# Altium schematic symbol library Pack_Bionics_SchLib.SchLib: 29 symbols
Pins are listed as number, name and electrical type; pins without a type are passive.

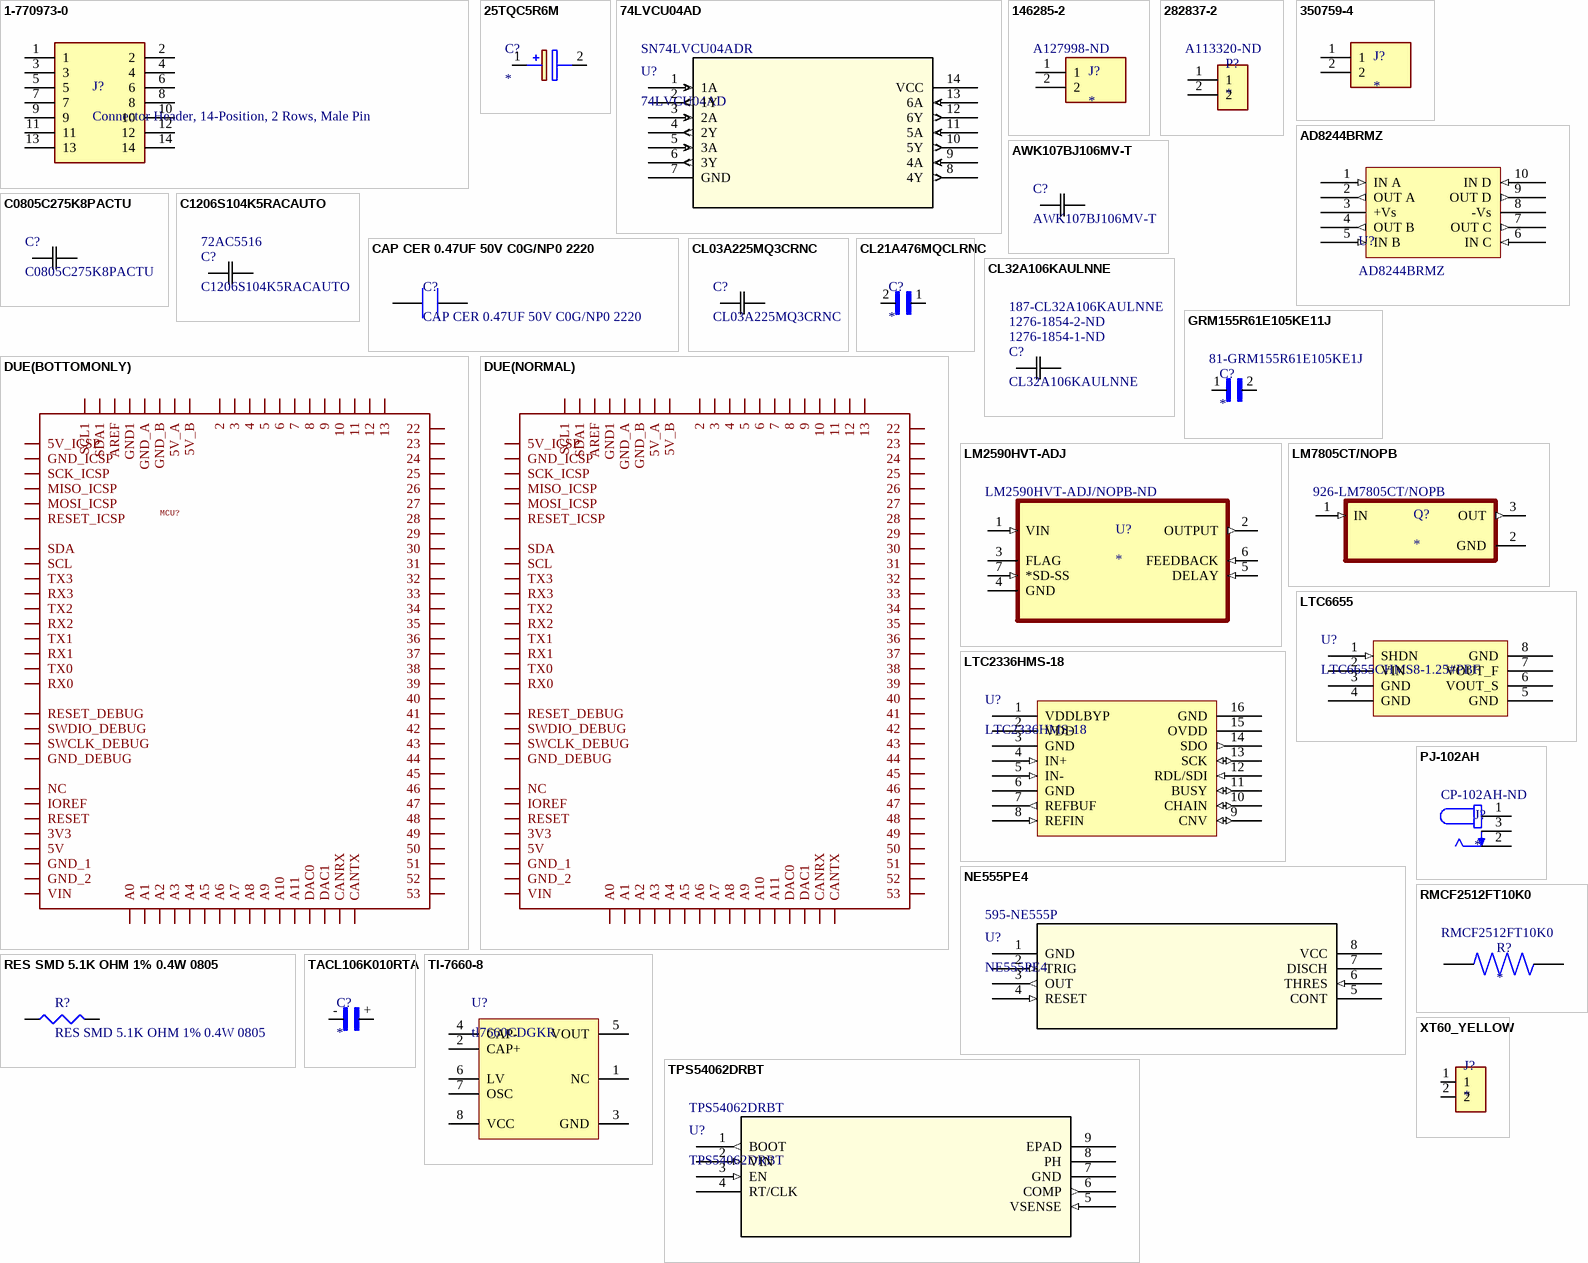
[diagram p0: symbols 1-770973-0 to XT60_YELLOW]

## 1-770973-0
designator J?, comment Connector Header, 14-Position, 2 Rows, Male Pin
Connector Header, 14-Position, 2 Rows, Male Pin, PCB, White, Mate-N-Lok Series; Manufacturer: TE Connectivity; MF: {'manufacturer': 'TE Connectivity'}; MP: 1-770973-0; Number of Terminals/Pins: 14; Current Rating: 9.5A; Insulation Resistance: 100MR; Connector System: Wire-to-Board; Mating Alignment: Yes (With); PCB Mount Alignment: No (Without); PCB Mount Retention: With; Max Voltage Rating (AC): 600V; Number of Ports: 1; Test Voltage: 1.5kV; Circuit Application: Power; VDE Tested: Yes; Pitch: 0.162inch; Row Spacing: 0.163inch; Plating Thickness: 8.89um; PCB Thickness: 1.57inch; Approvals: CSA; Value: *; Availability: Unavailable; Package: None; Price: None; Supplier 1: Digi-Key; Supplier Part Number 1: A32482-ND; Manufacturer Part Number: 1-770973-0; RoHS: Yes; Category: Power Connectors; Stock 1: 583; Pricing 1: 1=6.69000, 10=6.05100, 100=5.29790, 500=4.46140, 1000=3.90372 (USD); Mount: Through Hole,Board; Color: White; Contact Plating: Tin; Contact Material: Brass; Housing Material: Nylon; Housing Color: White; Min Operating Temperature: -67°C; Max Operating Temperature: 221°C; Packaging: Bag; Package Quantity: 200; Termination: Solder; Orientation: Right Angle; Series: Mini-Universal MATE-N-LOK; Number of Rows: 2; Contact Gender: Male; Number of Positions: 14; Number of Contacts: 14; Connector Type: Pin; Mating Retention: Yes (With); Contact Current Rating: 9.5A; Contact Type: Male Pin; Number of Poles: 14; Fastening Type: Ramp; Voltage Rating: 600V; Contact Retention: No (Without); Number of Power Positions: 14; Sealable: No (Without); Strain Relief: No (Without); Length: 30.56mm; Width: 12.7mm; Height: 11.86mm; Radiation Hardening: No; REACH SVHC: Unknown; Flammability Rating: UL94 V-0; RoHS Compliant: Yes; ComponentLink1URL: https://datasheet.ciiva.com/19460/1963239-19460794.pdf?src-supplier=Jameco; ComponentLink1Description: https://datasheet.ciiva.com/19460/1963239-19460794.pdf?src-supplier=Jameco; ComponentLink2URL: https://datasheet.ciiva.com/1111/eng-cd-770973-g-1111842.pdf?src-supplier=Element14; ComponentLink2Description: https://datasheet.ciiva.com/1111/eng-cd-770973-g-1111842.pdf?src-supplier=Element14; ComponentLink3URL: https://datasheet.ciiva.com/710/eng-cd-770973-h-710742.pdf?src-supplier=Digi-Key; ComponentLink3Description: https://datasheet.ciiva.com/710/eng-cd-770973-h-710742.pdf?src-supplier=Digi-Key; ComponentLink4URL: https://datasheet.ciiva.com/16654/eng-cs-82181-softshell-high-density-0408-16654873.pdf?src-supplier=Avnet+Europe; ComponentLink4Description: https://datasheet.ciiva.com/16654/eng-cs-82181-softshell-high-density-0408-16654873.pdf?src-supplier=Avnet+Europe; Supplier 2: Newark; Supplier Part Number 2: 52K3387; Stock 2: 272; Pricing 2: 1=6.19000, 10=5.42000, 25=5.24000, 50=5.07000, 100=4.89000, 250=4.38000 (USD); Supplier 3: Mouser; Supplier Part Number 3: 571-1-770973-0; Stock 3: 1677; Pricing 3: 1=6.37000, 10=5.58000, 50=5.58000, 100=5.05000, 200=4.51000, 600=4.24000, 1000=3.71000, 2600=3.53000, 5000=3.45000, 10000=3.36000 (USD)
footprint TE_1-770973-0
pins: 1, 2, 3, 4, 5, 6, 7, 8, 9, 10, 11, 12, 13, 14

## 25TQC5R6M
designator C?
Cap Tant Solid 5.6uF 25V B2 CASE 20% (3.5 X 2.8 X 1.9mm) SMD 3528, B2 0.1 Ohm 105°C Embossed T/R; Manufacturer_Name: Panasonic; Manufacturer_Part_Number: 25TQC5R6M; ESR (Equivalent Series Resistance): 100mR; Ripple Current: 800mA; Leakage Current: 42uA; Polarity: Polar; Life (Hours): 2000Hour; Dissipation Factor: 10%; Datasheet Link: http://industrial.panasonic.com/cdbs/www-data/pdf/AAA8000/AAA8000C62.pdf; Supplier 1: Digi-Key; Supplier Part Number 1: P16518CT-ND; Manufacturer: Panasonic; Manufacturer Part Number: 25TQC5R6M; RoHS: Yes; Category: Tantalum Capacitors; Stock 1: 7710; Pricing 1: 1=2.01000, 10=1.58300, 50=1.37220, 100=1.18740, 500=0.89718, 1000=0.79162 (USD); Mount: Surface Mount; Case/Package: 1411; Number of Pins: 2; Case Code (Metric): 3528; Case Code (Imperial): 1411; Min Operating Temperature: -55°C; Max Operating Temperature: 105°C; Package Quantity: 2000; Packaging: Tape and Reel; Capacitance: 5.6uF; Tolerance: 20%; Voltage Rating: 25V; Voltage Rating (DC): 25V; Termination: SMD/SMT; Voltage: 25V; Features: General Purpose; Length: 3.5mm; Width: 0.11inch; Height: 1.9mm; Height - Seated (Max): 0.079inch; Depth: 2.8mm; Radiation Hardening: No; REACH SVHC: No SVHC; Lead Free: Lead Free; RoHS Compliant: Yes; ComponentLink1URL: https://datasheet.ciiva.com/48675/aaa8000ce14-48675021.pdf?src-supplier=Avnet; ComponentLink1Description: https://datasheet.ciiva.com/48675/aaa8000ce14-48675021.pdf?src-supplier=Avnet; ComponentLink2URL: https://datasheet.ciiva.com/48543/tqc-series-eng-tds-48543112.pdf?src-supplier=Distrelec; ComponentLink2Description: https://datasheet.ciiva.com/48543/tqc-series-eng-tds-48543112.pdf?src-supplier=Distrelec; ComponentLink3URL: https://datasheet.ciiva.com/22745/1734368-22745228.pdf?src-supplier=Element14; ComponentLink3Description: https://datasheet.ciiva.com/22745/1734368-22745228.pdf?src-supplier=Element14; ComponentLink4URL: https://datasheet.ciiva.com/25785/1734368-25785141.pdf?src-supplier=Farnell; ComponentLink4Description: https://datasheet.ciiva.com/25785/1734368-25785141.pdf?src-supplier=Farnell; Supplier 2: Digi-Key; Supplier Part Number 2: P16518DKR-ND; Stock 2: 7710; Pricing 2: 1=2.01000, 10=1.58300, 50=1.37220, 100=1.18740, 500=0.89718, 1000=0.79162 (USD); Supplier 3: Digi-Key; Supplier Part Number 3: P16518TR-ND; Stock 3: 6000; Pricing 3: 2000=0.73885 (USD); Supplier 4: Mouser; Supplier Part Number 4: 667-25TQC5R6M; Stock 4: 2467; Pricing 4: 1=1.77000, 10=1.27000, 50=1.27000, 100=1.08000, 1000=0.72000, 10000=0.67900 (USD)
footprint POSCAP_B1_B1S_B1G_B15G_B2_B2S
pins: 1 +, 2 -

## 74LVCU04AD
designator U?  Supplier Part Number 1: SN74LVCU04ADR
No Description Available; Mfr_Name: NXP; Copyright: Copyright (C) 2023 Ultra Librarian. All rights reserved.; Manufacturer_Part_Number: 74LVCU04AD; Digi-Key_Part_Number_1: 568-2308-1-ND; Digi-Key_Part_Number_2: 568-2308-2-ND; Digi-Key_Part_Number_3: 568-2308-6-ND; RefDes: RefDes; Type: DEV; Supplier 1: Arrow Electronics
footprint SOT108-1_NXP
pins: 1 1A (in), 2 1Y (out), 3 2A (in), 4 2Y (out), 5 3A (in), 6 3Y (out), 7 GND (power), 8 4Y (out), 9 4A (in), 10 5Y (out), 11 5A (in), 12 6Y (out), 13 6A (in), 14 VCC (power)

## 146285-2
designator J?  Supplier Part Number 1: A127998-ND
MP: 146285-2; Package: None; Price: None; Value: *; Availability: Unavailable; Supplier 1: Digi-Key
footprint TE_146285-2
pins: 1, 2

## 282837-2
designator P?  Supplier Part Number 1: A113320-ND
Connector Terminal Blocks Receptacle 2 Position 5.08mm Solder Straight Thru-Hole 13.5A/Contact; MF: TE Connectivity; MP: 282837-2; Price: None; Check_prices: https://www.snapeda.com/parts/282837-2/TE%20Connectivity%20AMP%20Connectors/view-part/2549980/?ref=eda; Package: None; Purchase-URL: https://pricing.snapeda.com/search/part/282837-2/?ref=eda; SnapEDA_Link: https://www.snapeda.com/parts/282837-2/TE%20Connectivity%20AMP%20Connectors/view-part/2549980/?ref=snap; Value: *; Availability: Good; Supplier 1: Digi-Key
footprint TE_282837-2
pins: 1, 2

## 350759-4
designator J?
Conn Power SKT 2 POS 6.35mm Solder ST Thru-Hole 2 Terminal 1 Port Bag; MP: 350759-4; MF: TE Connectivity; Number of Terminals/Pins: 2; Max Voltage Rating (AC): 600V; Current Rating: 19A; Number of Ports: 1; Connector Type: Socket; Mating Retention: Yes (With); PCB Mount Alignment: No (Without); Connector System: Wire-to-Board; PCB Mount Retention: Without; PCB Mounting Orientation: Vertical; VDE Tested: Yes; Contact Current Rating: 12A; Insulation Resistance: 1GR; Plating Thickness: 2.54um; PCB Thickness: 1.57mm; Approvals: CSA; Package: None; DigiKey-Purchase-URL: https://snapeda.com/shop?store=DigiKey&id=450125; Price: None; Availability: Unavailable; SnapEDA_Link: https://www.snapeda.com/parts/350759-4/TE%20Connectivity%20AMP%20Connectors/view-part/450125/?ref=snap; Value: *; EU_RoHS_Compliance: Compliant; Supplier 1: Newark; Supplier Part Number 1: 28AC9015; Manufacturer: TE Connectivity; Manufacturer Part Number: 350759-4; RoHS: Yes; Category: Power Connectors; Stock 1: 2749; Pricing 1: 1=0.55800, 10=0.50600, 25=0.44600, 100=0.39500, 200=0.39500, 500=0.35200, 1000=0.31900 (USD); Mount: Through Hole; Contact Plating: Tin; Contact Material: Bronze,Tin; Color: Natural,Beige; Housing Material: Nylon; Min Operating Temperature: -40°C; Max Operating Temperature: 221°C; Termination: Solder; Orientation: Straight; Number of Rows: 1; Packaging: Bag; Contact Gender: Female; Package Quantity: 100; Fastening Type: Ramp; Number of Positions: 2; Number of Contacts: 2; Sealable: No (Without); Series: Universal MATE-N-LOK; Contact Type: Female Socket; Voltage Rating: 600V; Circuit Application: Power; Contact Retention: No (Without); Mating Alignment: Yes (With); Number of Power Positions: 2; Strain Relief: No (Without); Length: 0.55inch; Width: 0.3inch; Pitch: 6.35mm; Depth: 27.43mm; Radiation Hardening: No; Flammability Rating: UL94 V-2; RoHS Compliant: Yes; REACH SVHC: No SVHC; ComponentLink1URL: https://datasheet.ciiva.com/1451/1789465-1451418.pdf?src-supplier=Farnell; ComponentLink1Description: https://datasheet.ciiva.com/1451/1789465-1451418.pdf?src-supplier=Farnell; ComponentLink2URL: https://datasheet.ciiva.com/19460/846268-19460735.pdf?src-supplier=Jameco; ComponentLink2Description: https://datasheet.ciiva.com/19460/846268-19460735.pdf?src-supplier=Jameco; ComponentLink3URL: https://datasheet.ciiva.com/1442/1650314-1442692.pdf?src-supplier=Element14; ComponentLink3Description: https://datasheet.ciiva.com/1442/1650314-1442692.pdf?src-supplier=Element14; ComponentLink4URL: https://datasheet.ciiva.com/11755/0900766b80db094d-11755417.pdf?src-supplier=RSComponents; ComponentLink4Description: https://datasheet.ciiva.com/11755/0900766b80db094d-11755417.pdf?src-supplier=RSComponents; ComponentLink5URL: https://datasheet.ciiva.com/16320/eng-cs-82181-softshell-standard-density-0508-16320620.pdf?src-supplier=Future+Electronics; ComponentLink5Description: https://datasheet.ciiva.com/16320/eng-cs-82181-softshell-standard-density-0508-16320620.pdf?src-supplier=Future+Electronics; ComponentLink6URL: https://datasheet.ciiva.com/15173/getdatasheetpartid-36909-15173591.pdf?src-supplier=Verical; ComponentLink6Description: https://datasheet.ciiva.com/15173/getdatasheetpartid-36909-15173591.pdf?src-supplier=Verical; ComponentLink7URL: https://datasheet.ciiva.com/41447/001196560-da-01-en-buchsensockel-auf-lp-180grad-0-0350759-41447271.pdf?src-supplier=Conrad; ComponentLink7Description: https://datasheet.ciiva.com/41447/001196560-da-01-en-buchsensockel-auf-lp-180grad-0-0350759-41447271.pdf?src-supplier=Conrad; ComponentLink8URL: https://datasheet.ciiva.com/3126/eng-cs-82181-softshell-standard-density-0508-3126174.pdf?src-supplier=Avnet; ComponentLink8Description: https://datasheet.ciiva.com/3126/eng-cs-82181-softshell-standard-density-0508-3126174.pdf?src-supplier=Avnet; ComponentLink9URL: https://datasheet.ciiva.com/14154/04419503-14154652.pdf?src-supplier=Distrelec; ComponentLink9Description: https://datasheet.ciiva.com/14154/04419503-14154652.pdf?src-supplier=Distrelec; ComponentLink10URL: https://datasheet.ciiva.com/30061/eng-cs-82181-softshell-standard-density-0508-30061895.pdf?src-supplier=Onlinecomponents.com; ComponentLink10Description: https://datasheet.ciiva.com/30061/eng-cs-82181-softshell-standard-density-0508-30061895.pdf?src-supplier=Onlinecomponents.com; ComponentLink11URL: https://datasheet.ciiva.com/14645/70083569-14645621.pdf?src-supplier=Allied+Electronics; ComponentLink11Description: https://datasheet.ciiva.com/14645/70083569-14645621.pdf?src-supplier=Allied+Electronics; Supplier 2: Newark; Supplier Part Number 2: 87F5300; Stock 2: 656; Pricing 2: 1=0.21100, 10=0.21100, 25=0.21100, 100=0.21100, 500=0.21100, 1000=0.21100, 2500=0.21100 (USD); Supplier 3: Digi-Key; Supplier Part Number 3: A1490-ND; Stock 3: 3408; Pricing 3: 1=0.75000, 10=0.65400, 100=0.53920, 500=0.46886, 1000=0.38682, 5000=0.33993, 10000=0.31649 (USD); Supplier 4: Mouser; Supplier Part Number 4: 571-3507594; Stock 4: 3635; Pricing 4: 1=0.71000, 10=0.60400, 50=0.60400, 100=0.49100, 600=0.44600, 1000=0.36800, 2600=0.33400, 5000=0.32300, 10000=0.30100, 25000=0.29000 (USD)
footprint TE_350759-4
pins: 1, 2

## AD8244BRMZ
designator U?
Op Amp Quad Low Power Amplifier R-R O/P ±18V/36V 10-Pin MSOP Tube; Manufacturer: Analog Devices; Min Supply Voltage: 3V; Max Supply Voltage: 36V; Min Dual Supply Voltage: 1.5V; Max Dual Supply Voltage: 18V; Voltage Gain: 0dB; Number of Circuits: 4; Slew Rate: 0.8V/µs; -3db Bandwidth: 3MHz; Input Bias Current: 0.5pA; Input Offset Voltage (Vos): 350uV; Operating Supply Current: 180uA; Output Current per Channel: 8mA; Common Mode Rejection Ratio: 61.8dB; Input Capacitance: 3.3pF; Nominal Supply Current: 2.5mA; Power Supply Rejection Ratio (PSRR): 90dB; Settling Time: 18us; Bandwidth: 3.6MHz; Max Frequency: 1kHz; Supplier 1: Digi-Key; Manufacturer Part Number: AD8244BRMZ; RoHS: Yes; Category: Amplifiers - Op Amps, Buffer, Instrumentation; Stock 1: 3; Pricing 1: 1=7.39000, 10=6.67700, 25=6.36680, 100=5.52830, 250=5.27984, 500=4.83450 (USD); Mount: Surface Mount; Case/Package: MSOP; Number of Pins: 10; Min Operating Temperature: -40°C; Max Operating Temperature: 85°C; Packaging: Rail/Tube; Gain Bandwidth Product: 3MHz; Quiescent Current: 180uA; Number of Amplifiers: 4; Length: 3.1mm; Width: 3.1mm; Height: 0.95mm; Lead Free: Contains Lead; REACH SVHC: No SVHC; ComponentLink1URL: https://datasheet.ciiva.com/29970/ad8244-29970485.pdf?src-supplier=Avnet; ComponentLink1Description: https://datasheet.ciiva.com/29970/ad8244-29970485.pdf?src-supplier=Avnet; Supplier 2: Mouser; Stock 2: 351; Pricing 2: 1=7.40000, 10=6.68000, 50=6.36000, 100=5.52000, 1000=4.39000, 10000=4.39000 (USD); Supplier 3: RSComponents; Stock 3: 500; Pricing 3: 10=5.95000, 20=5.56500 (GBP); Supplier Part Number 2: 584-AD8244BRMZ; Supplier Part Number 1: 505-AD8244BRMZ-ND; Supplier Part Number 3: 1831998P
footprint AD8244BRMZ (Op Amp Quad Low Power Amplifier R-R O/P ±18V/36V 10-Pin MSOP Tube)
pins: 1 IN A (in), 2 OUT A (out), 3 +Vs (power), 4 OUT B (out), 5 IN B (in), 6 IN C (in), 7 OUT C (out), 8 -Vs (power), 9 OUT D (out), 10 IN D (in)

## AWK107BJ106MV-T
designator C?
Multilayer Ceramic Capacitor 10uF 4V 20% 0306 Emboss T/R; Mfr_Name: Taiyo Yuden; Type: DEV; Copyright: Copyright (C) 2022 Ultra Librarian. All rights reserved.; Manufacturer_Part_Number: AWK107BJ106MV-T; Digi-Key_Part_Number_1: 587-5159-1-ND; Digi-Key_Part_Number_2: 587-5159-2-ND; Digi-Key_Part_Number_3: 587-5159-6-ND; RefDes: RefDes; Supplier 1: Digi-Key; Supplier Part Number 1: 587-5159-1-ND; Manufacturer: Taiyo Yuden; Manufacturer Part Number: AWK107BJ106MV-T; RoHS: Yes; Category: Ceramic Capacitors; Stock 1: 5653; Pricing 1: 1=0.53000, 10=0.37700, 50=0.28480, 100=0.24810, 500=0.18376, 1000=0.15620 (USD); Mount: Surface Mount; Case/Package: 0306; Case Code (Imperial): 0306; Case Code (Metric): 0816; Min Operating Temperature: -55°C; Max Operating Temperature: 85°C; Packaging: Cut Tape; Capacitance: 10uF; Tolerance: 20%; Voltage Rating: 4V; RoHS Compliant: Yes; ComponentLink1URL: https://ds.yuden.co.jp/TYCOMPAS/ut/detail?pn=AWK107BJ106MV-T &amp;u=M&src-supplier=Digi-Key; ComponentLink1Description: https://ds.yuden.co.jp/TYCOMPAS/ut/detail?pn=AWK107BJ106MV-T &amp;u=M&src-supplier=Digi-Key; ComponentLink2URL: http://ds.yuden.co.jp/TYCOMPAS/ut/detail.do?productNo=AWK107BJ106MV-T&amp;fileName=AWK107BJ106MV-T_SS&amp;mode=specSheetDownload&src-supplier=Digi-Key; ComponentLink2Description: http://ds.yuden.co.jp/TYCOMPAS/ut/detail.do?productNo=AWK107BJ106MV-T&amp;fileName=AWK107BJ106MV-T_SS&amp;mode=specSheetDownload&src-supplier=Digi-Key; Supplier 2: Digi-Key; Supplier Part Number 2: 587-5159-6-ND; Stock 2: 5653; Pricing 2: 1=0.53000, 10=0.37700, 50=0.28480, 100=0.24810, 500=0.18376, 1000=0.15620 (USD); Supplier 3: Digi-Key; Supplier Part Number 3: 587-5159-2-ND; Stock 3: 4000; Pricing 3: 4000=0.13783 (USD); Supplier 4: Mouser; Supplier Part Number 4: 963-AWK107BJ106MV-T; Stock 4: 3076; Pricing 4: 1=0.51000, 10=0.27300, 50=0.27300, 100=0.23800, 1000=0.15000, 10000=0.13100 (USD)
footprint AWK107_0306_TAY
footprint AWK107_0306_TAY-L
footprint AWK107_0306_TAY-M
pins: 1, 2

## C0805C275K8PACTU
designator C?
0805 C 2.7uF Ceramic Multilayer Capacitor; 10 VDC; +85degC; X5R Dielec; +/-10%; Mfr_Name: Kemet; Type: DEV; Tolerance: 10%; Voltage Rating: 10V; Dissipation Factor: 5%; Copyright: Copyright (C) 2022 Ultra Librarian. All rights reserved.; Manufacturer_Part_Number: C0805C275K8PACTU; Digi-Key_Part_Number_1: 399-3127-1-ND; Digi-Key_Part_Number_2: 399-3127-2-ND; Digi-Key_Part_Number_3: 399-3127-6-ND; RefDes: RefDes; Supplier 1: Digi-Key; Supplier Part Number 1: 399-C0805C275K8PAC7800CT-ND; Manufacturer: KEMET; Manufacturer Part Number: C0805C275K8PACTU; RoHS: Yes; Category: Ceramic Capacitors; Stock 1: 7603; Pricing 1: 1=0.51000, 10=0.36000, 50=0.27220, 100=0.23700, 500=0.17556, 1000=0.14923 (USD); Mount: Surface Mount,PCB; Case/Package: 0805; Case Code (Metric): 2012; Case Code (Imperial): 0805; Dielectric Material: Ceramic; Min Operating Temperature: -55°C; Max Operating Temperature: 85°C; Capacitance: 2.7uF; Dielectric: X5R; Packaging: Tape and Reel; Package Quantity: 1; Voltage Rating (DC): 10V; Termination: SMD/SMT; Voltage: 10V; Series: C; Construction: Flat; Length: 2mm; Width: 0.049inch; Height: 3mm; Depth: 1.25mm; Thickness: 0.041inch; Lead Pitch: 0.75mm; Radiation Hardening: No; REACH SVHC: No SVHC; Lead Free: Lead Free; RoHS Compliant: Yes; ComponentLink1URL: http://www.mouser.com/ds/2/212/KEM_C1006_X5R_SMD-1103249.pdf?src-supplier=Mouser; ComponentLink1Description: http://www.mouser.com/ds/2/212/KEM_C1006_X5R_SMD-1103249.pdf?src-supplier=Mouser; ComponentLink2URL: http://components.arrow.com/part/dataview/40912422S7467711N7429?src-supplier=Arrow+Electronics; ComponentLink2Description: http://components.arrow.com/part/dataview/40912422S7467711N7429?src-supplier=Arrow+Electronics; ComponentLink3URL: http://uk.rs-online.com/webdocs/13da/0900766b813da6d7.pdf?src-supplier=RSComponents; ComponentLink3Description: http://uk.rs-online.com/webdocs/13da/0900766b813da6d7.pdf?src-supplier=RSComponents; ComponentLink4URL: http://uk.rs-online.com/webdocs/13da/0900766b813da6d8.pdf?src-supplier=RSComponents; ComponentLink4Description: http://uk.rs-online.com/webdocs/13da/0900766b813da6d8.pdf?src-supplier=RSComponents; ComponentLink5URL: https://www.alliedelec.com/m/d/7f88201dbaab65c95b0b8234579261a3.pdf?src-supplier=Allied+Electronics; ComponentLink5Description: https://www.alliedelec.com/m/d/7f88201dbaab65c95b0b8234579261a3.pdf?src-supplier=Allied+Electronics; ComponentLink6URL: https://www.alliedelec.com/m/d/fc0aaf5de6140bfa85cbf42aaccfae41.pdf?src-supplier=Allied+Electronics; ComponentLink6Description: https://www.alliedelec.com/m/d/fc0aaf5de6140bfa85cbf42aaccfae41.pdf?src-supplier=Allied+Electronics; ComponentLink7URL: https://search.kemet.com/component-edge/download/datasheet/C0805C275K8PACTU.pdf?src-supplier=Digi-Key; ComponentLink7Description: https://search.kemet.com/component-edge/download/datasheet/C0805C275K8PACTU.pdf?src-supplier=Digi-Key; ComponentLink8URL: https://api.kemet.com/component-edge/download/datasheet/C0805C275K8PACTU.pdf?src-supplier=Digi-Key; ComponentLink8Description: https://api.kemet.com/component-edge/download/datasheet/C0805C275K8PACTU.pdf?src-supplier=Digi-Key; ComponentLink9URL: http://capacitoredge.kemet.com/capedge2/DataSheet?pn=C0805C275K8PAC7800&src-supplier=Avnet; ComponentLink9Description: http://capacitoredge.kemet.com/capedge2/DataSheet?pn=C0805C275K8PAC7800&src-supplier=Avnet; ComponentLink10URL: http://capacitoredge.kemet.com/capedge2/DataSheet?pn=C0805C275K8PAC7800&src-supplier=Avnet+Europe; ComponentLink10Description: http://capacitoredge.kemet.com/capedge2/DataSheet?pn=C0805C275K8PAC7800&src-supplier=Avnet+Europe; Supplier 2: Digi-Key; Supplier Part Number 2: 399-C0805C275K8PAC7800DKR-ND; Stock 2: 7603; Pricing 2: 1=0.51000, 10=0.36000, 50=0.27220, 100=0.23700, 500=0.17556, 1000=0.14923 (USD); Supplier 3: Digi-Key; Supplier Part Number 3: 399-C0805C275K8PAC7800TR-ND; Stock 3: 4000; Pricing 3: 4000=0.11970, 8000=0.11172 (USD); Supplier 4: Mouser; Supplier Part Number 4: 80-C0805C275K8P; Stock 4: 6516; Pricing 4: 1=0.51000, 10=0.27300, 50=0.27300, 100=0.22400, 1000=0.14400, 10000=0.11100 (USD)
footprint CAPC220145_105N_KEM
footprint CAPC220145_105N_KEM-L
footprint CAPC220145_105N_KEM-M
pins: 1, 2

## C1206S104K5RACAUTO
designator C?  Supplier Part Number 1: 72AC5516
No Description Available; Mfr_Name: Kemet; Type: DEV; Copyright: Copyright (C) 2022 Ultra Librarian. All rights reserved.; Manufacturer_Part_Number: C1206S104K5RACAUTO; Digi-Key_Part_Number_1: 399-C1206S104K5RACAUTOTR-ND; Digi-Key_Part_Number_2: 399-C1206S104K5RACAUTOCT-ND; Digi-Key_Part_Number_3: 399-C1206S104K5RACAUTODKR-ND; RefDes: RefDes; Supplier 1: Newark
footprint CAPC340180_88N_KEM
pins: 1, 2

## CAP CER 0.47UF 50V C0G/NP0 2220
designator C?
Cap Ceramic 0.47uF 50V C0G 5% SMD 2220 125°C Embossed Plastic T/R; Manufacturer: KEMET; Manufacturer Part Number: C2220C474J5GACAUTO; Capacitance: 470nF; Supplier 1: Digi-Key; Supplier Part Number 1: 399-C2220C474J5GACAUTOCT-ND; RoHS: Yes; Category: Ceramic Capacitors; Stock 1: 950; Pricing 1: 1=4.64000, 10=3.74400, 50=3.21940, 100=2.92000, 500=2.17128 (USD); Case/Package: 2220; Dielectric Material: Ceramic; Voltage Rating (DC): 50V; Tolerance: 5%; Lead Free: Lead Free; RoHS Compliant: Yes; ComponentLink1URL: http://www.farnell.com/datasheets/2747618.pdf?src-supplier=Farnell; ComponentLink1Description: http://www.farnell.com/datasheets/2747618.pdf?src-supplier=Farnell; Supplier 2: Digi-Key; Supplier Part Number 2: 399-C2220C474J5GACAUTODKR-ND; Stock 2: 950; Pricing 2: 1=4.64000, 10=3.74400, 50=3.21940, 100=2.92000, 500=2.17128 (USD); Supplier 3: Mouser; Supplier Part Number 3: 80-C2220C474J5GAUTO; Stock 3: 1000; Pricing 3: 1=4.64000, 10=3.75000, 50=3.22000, 100=2.91000, 1000=2.48000, 10000=2.48000 (USD)
footprint 2220 (5650) Capacitor
pins: 1, 2

## CL03A225MQ3CRNC
designator C?
CL03 Series 0201 2.2 uF 6.3 V X5R ±20% Tolerance Multilayer Ceramic Capacitor; Mfr_Name: Samsung; Type: DEV; Capacitance: 2.2uF; Voltage Rating: 6.3V; Copyright: Copyright (C) 2022 Ultra Librarian. All rights reserved.; Manufacturer_Part_Number: CL03A225MQ3CRNC; Digi-Key_Part_Number_1: 1276-6870-2-ND; Digi-Key_Part_Number_2: 1276-6870-1-ND; Digi-Key_Part_Number_3: 1276-6870-6-ND; RefDes: RefDes; Supplier 1: Digi-Key; Supplier Part Number 1: 1276-6870-1-ND; Manufacturer: Samsung; Manufacturer Part Number: CL03A225MQ3CRNC; RoHS: Yes; Category: Ceramic Capacitors; Stock 1: 667406; Pricing 1: 1=0.27000, 10=0.18500, 50=0.11080, 100=0.09360, 500=0.06406, 1000=0.05667, 2500=0.05421, 5000=0.04928 (USD); Mount: Surface Mount; Case/Package: 0201; Case Code (Metric): 0603; Case Code (Imperial): 0201; Min Operating Temperature: -55°C; Max Operating Temperature: 85°C; Packaging: Tape and Reel; Tolerance: 20%; Dielectric: X5R; Series: CL; Construction: Flat; Length: 0.6mm; Width: 0.012inch; Height: 0.3mm; Thickness: 0.013inch; Depth: 0.3mm; Radiation Hardening: No; RoHS Compliant: Yes; ComponentLink1URL: https://datasheet.ciiva.com/26838/getdatasheetpartid-745303-26838096.pdf?src-supplier=Verical; ComponentLink1Description: https://datasheet.ciiva.com/26838/getdatasheetpartid-745303-26838096.pdf?src-supplier=Verical; Supplier 2: Digi-Key; Supplier Part Number 2: 1276-6870-6-ND; Stock 2: 667406; Pricing 2: 1=0.27000, 10=0.18500, 50=0.11080, 100=0.09360, 500=0.06406, 1000=0.05667, 2500=0.05421, 5000=0.04928 (USD); Supplier 3: Digi-Key; Supplier Part Number 3: 1276-6870-2-ND; Stock 3: 650000; Pricing 3: 10000=0.04682, 20000=0.04435 (USD); Supplier 4: Mouser; Supplier Part Number 4: 187-CL03A225MQ3CRNC; Stock 4: 295762; Pricing 4: 1=0.29000, 10=0.13300, 50=0.13300, 100=0.10000, 1000=0.06100, 10000=0.04900 (USD)
footprint CAP_CL_03_SAM
footprint CAP_CL_03_SAM-L
footprint CAP_CL_03_SAM-M
pins: 1, 2

## CL21A476MQCLRNC
designator C?
Cap Ceramic 47uF 6.3V X5R 20% SMD 0805 85°C Paper T/R; MP: CL21A476MQCLRNC; MF: Samsung; Package: 0805 Samsung; Value: *; SnapEDA_Link: https://www.snapeda.com/parts/CL21A476MQCLRNC/Samsung/view-part/3598165/?ref=snap; Availability: Unavailable; Price: None; DigiKey-Purchase-URL: https://snapeda.com/shop?store=DigiKey&id=3598165; Supplier 1: Digi-Key; Supplier Part Number 1: 1276-2420-1-ND; Manufacturer: Samsung; Manufacturer Part Number: CL21A476MQCLRNC; RoHS: Yes; Category: Ceramic Capacitors; Stock 1: 98057; Pricing 1: 1=0.49000, 10=0.34100, 50=0.23900, 100=0.20480, 500=0.15362, 1000=0.12973 (USD); Mount: Surface Mount; Case/Package: 0805; Case Code (Metric): 2012; Case Code (Imperial): 0805; Contact Plating: Tin; Min Operating Temperature: -55°C; Max Operating Temperature: 85°C; Tolerance: 20%; Packaging: Tape and Reel; Package Quantity: 4000; Capacitance: 47uF; Voltage Rating: 6.3V; Dielectric: X5R; Termination: Wraparound; Series: CL; Construction: Flat; Length: 2mm; Width: 0.049inch; Thickness: 0.037inch; Depth: 1.25mm; Lead Free: Lead Free; RoHS Compliant: Yes; ComponentLink1URL: https://datasheet.ciiva.com/25723/cl21a476mqclrnc-25723991.pdf?src-supplier=Digi-Key; ComponentLink1Description: https://datasheet.ciiva.com/25723/cl21a476mqclrnc-25723991.pdf?src-supplier=Digi-Key; Supplier 2: Digi-Key; Supplier Part Number 2: 1276-2420-6-ND; Stock 2: 98057; Pricing 2: 1=0.49000, 10=0.34100, 50=0.23900, 100=0.20480, 500=0.15362, 1000=0.12973 (USD); Supplier 3: Digi-Key; Supplier Part Number 3: 1276-2420-2-ND; Stock 3: 98057; Pricing 3: 4000=0.11607, 8000=0.10924 (USD); Supplier 4: Mouser; Supplier Part Number 4: 187-CL21A476MQCLRNC; Stock 4: 323; Pricing 4: 1=0.50000, 10=0.28500, 50=0.28500, 100=0.21700, 1000=0.13700, 10000=0.10800 (USD)
footprint CAPC2012X140N
pins: 1, 2

## CL32A106KAULNNE
designator C?  Supplier Part Number 1: 1276-1854-1-ND  Supplier Part Number 2: 1276-1854-2-ND  Supplier Part Number 3: 187-CL32A106KAULNNE
Cap Ceramic 10uF 25V X5R 10% SMD 1210 85°C Embossed T/R; Mfr_Name: Samsung; Type: DEV; Copyright: Copyright (C) 2022 Ultra Librarian. All rights reserved.; Manufacturer_Part_Number: CL32A106KAULNNE; Digi-Key_Part_Number_1: 1276-1854-2-ND; Digi-Key_Part_Number_2: 1276-1854-1-ND; Digi-Key_Part_Number_3: 1276-1854-6-ND; RefDes: RefDes; Supplier 1: Digi-Key; Manufacturer: Samsung; Manufacturer Part Number: CL32A106KAULNNE; RoHS: Yes; Category: Ceramic Capacitors; Stock 1: 1126; Pricing 1: 1=0.36000, 10=0.24500, 50=0.16360, 100=0.13910, 500=0.09816, 1000=0.08589 (USD); Mount: Surface Mount; Case/Package: 1210; Case Code (Metric): 3225; Case Code (Imperial): 1210; Min Operating Temperature: -55°C; Max Operating Temperature: 85°C; Capacitance: 10uF; Tolerance: 10%; Dielectric: X5R; Package Quantity: 1; Packaging: Tape and Reel; Voltage Rating: 25V; Series: CL; Construction: Flat; Length: 3.2mm; Width: 0.098inch; Height: 1.8mm; Depth: 2.5mm; Thickness: 0.079inch; Radiation Hardening: No; Lead Free: Lead Free; RoHS Compliant: Yes; ComponentLink1URL: https://datasheet.ciiva.com/25792/cl32a106kaulnne-25792896.pdf?src-supplier=Digi-Key; ComponentLink1Description: https://datasheet.ciiva.com/25792/cl32a106kaulnne-25792896.pdf?src-supplier=Digi-Key; ComponentLink2URL: https://datasheet.ciiva.com/16362/cl05b104kq5nnnc-16362286.pdf?src-supplier=Future+Electronics; ComponentLink2Description: https://datasheet.ciiva.com/16362/cl05b104kq5nnnc-16362286.pdf?src-supplier=Future+Electronics; Supplier 2: Digi-Key; Stock 2: 2794000; Pricing 2: 2000=0.08180, 4000=0.07566 (USD); Supplier 3: Mouser; Stock 3: 13193; Pricing 3: 1=0.38000, 10=0.26100, 50=0.26100, 100=0.14900, 500=0.10500, 1000=0.09200, 2000=0.08700, 4000=0.08000, 10000=0.07600 (USD)
footprint CAP_CL32_SAM
footprint CAP_CL32_SAM-L
footprint CAP_CL32_SAM-M
pins: 1, 2

## DUE(BOTTOMONLY)
designator MCU?
Mcu, Arduino Due, 32-BIT Cortex- M3 Arm, 96MHZ, 256K, 50K, 5 Spi; Manufacturer Part Number: A000062; GateName_1: G$1; SymbolName_1: DUE(BOTTOMONLY); Evaluation Kit: Yes; Number of Bits: 32; LibraryName: DUElib130425; DeviceSetName: DUE(BOTTOMONLY); Package: DUE(BOTTOMONLY); Manufacturer: Arduino; RoHS: Yes; Category: Embedded Processors and Controllers; Stock 1: 7059; Pricing 1: 1=40.30000 (USD); Case/Package: Module; Weight: 0.09lb; Package Quantity: 1; Core Architecture: ARM; Series: AT91SAM3; Length: 4.5inch; Width: 2inch; Height: 0.05inch; REACH SVHC: Unknown; ComponentLink1URL: https://datasheet.ciiva.com/12069/arduinodue-216811-12069710.pdf?src-supplier=Mouser; ComponentLink1Description: https://datasheet.ciiva.com/12069/arduinodue-216811-12069710.pdf?src-supplier=Mouser; ComponentLink2URL: https://datasheet.ciiva.com/14100/due-eng-tds-14100428.pdf?src-supplier=Distrelec; ComponentLink2Description: https://datasheet.ciiva.com/14100/due-eng-tds-14100428.pdf?src-supplier=Distrelec; ComponentLink3URL: https://datasheet.ciiva.com/6205/arduinoduebrd-web-6205279.pdf?src-supplier=Digi-Key; ComponentLink3Description: https://datasheet.ciiva.com/6205/arduinoduebrd-web-6205279.pdf?src-supplier=Digi-Key; ComponentLink4URL: https://datasheet.ciiva.com/19455/2170222-19455450.pdf?src-supplier=Jameco; ComponentLink4Description: https://datasheet.ciiva.com/19455/2170222-19455450.pdf?src-supplier=Jameco; ComponentLink5URL: https://datasheet.ciiva.com/20168/73-4445-20168553.pdf?src-supplier=Rapid+Electronics; ComponentLink5Description: https://datasheet.ciiva.com/20168/73-4445-20168553.pdf?src-supplier=Rapid+Electronics; ComponentLink6URL: https://datasheet.ciiva.com/6810/1682211-6810793.pdf?src-supplier=Newark; ComponentLink6Description: https://datasheet.ciiva.com/6810/1682211-6810793.pdf?src-supplier=Newark; ComponentLink7URL: https://datasheet.ciiva.com/7647/1682211-7647597.pdf?src-supplier=Element14; ComponentLink7Description: https://datasheet.ciiva.com/7647/1682211-7647597.pdf?src-supplier=Element14; Stock 2: 901; Pricing 2: 1=40.30000, 10=40.30000, 50=40.30000, 100=40.30000, 1000=40.30000, 10000=40.30000 (USD); Supplier 1: Digi-Key; Supplier Part Number 1: 1050-1049-ND; Supplier 2: Mouser; Supplier Part Number 2: 782-A000062
footprint DUE(BOTTOMONLY)
pins: 2 (io), 3 (io), 3V3 (io), 4 (io), 5 (io), 5V (io), 5V_A (io), 5V_B (io), 5V_ICSP (io), 6 (io), 7 (io), 8 (io), 9 (io), 10 (io), 11 (io), 12 (io), 13 (io), 22 (io), 23 (io), 24 (io), 25 (io), 26 (io), 27 (io), 28 (io), 29 (io), 30 (io), 31 (io), 32 (io), 33 (io), 34 (io), 35 (io), 36 (io), 37 (io), 38 (io), 39 (io), 40 (io), 41 (io), 42 (io), 43 (io), 44 (io), 45 (io), 46 (io), 47 (io), 48 (io), 49 (io), 50 (io), 51 (io), 52 (io), 53 (io), A0 (io), A1 (io), A2 (io), A3 (io), A4 (io), A5 (io), A6 (io), A7 (io), A8 (io), A9 (io), A10 (io), A11 (io), AREF (io), CANRX (io), CANTX (io), DAC0 (io), DAC1 (io), GND1 (io), GND_1 (io), GND_2 (io), GND_A (io), GND_B (io), GND_DEBUG (io), GND_ICSP (io), IOREF (io), MISO_ICSP (io), MOSI_ICSP (io), NC (io), RESET (io), RESET_DEBUG (io), RESET_ICSP (io), RX0 (io), RX1 (io), RX2 (io), RX3 (io), SCK_ICSP (io), SCL (io), SCL1 (io), SDA (io), SDA1 (io), SWCLK_DEBUG (io), SWDIO_DEBUG (io), TX0 (io), TX1 (io), TX2 (io), TX3 (io), VIN (io)

## DUE(NORMAL)
designator MCU?
Mcu, Arduino Due, 32-BIT Cortex- M3 Arm, 96MHZ, 256K, 50K, 5 Spi; Manufacturer Part Number: A000062; GateName_1: G$1; SymbolName_1: DUE(NORMAL); Evaluation Kit: Yes; Number of Bits: 32; LibraryName: DUElib130425; DeviceSetName: DUE(NORMAL); Package: DUE(NORMAL); Supplier 1: Digi-Key; Supplier Part Number 1: 1050-1049-ND; Manufacturer: Arduino; RoHS: Yes; Category: Embedded Processors and Controllers; Stock 1: 7059; Pricing 1: 1=40.30000 (USD); Case/Package: Module; Weight: 0.09lb; Package Quantity: 1; Core Architecture: ARM; Series: AT91SAM3; Length: 4.5inch; Width: 2inch; Height: 0.05inch; REACH SVHC: Unknown; ComponentLink1URL: https://datasheet.ciiva.com/12069/arduinodue-216811-12069710.pdf?src-supplier=Mouser; ComponentLink1Description: https://datasheet.ciiva.com/12069/arduinodue-216811-12069710.pdf?src-supplier=Mouser; ComponentLink2URL: https://datasheet.ciiva.com/14100/due-eng-tds-14100428.pdf?src-supplier=Distrelec; ComponentLink2Description: https://datasheet.ciiva.com/14100/due-eng-tds-14100428.pdf?src-supplier=Distrelec; ComponentLink3URL: https://datasheet.ciiva.com/6205/arduinoduebrd-web-6205279.pdf?src-supplier=Digi-Key; ComponentLink3Description: https://datasheet.ciiva.com/6205/arduinoduebrd-web-6205279.pdf?src-supplier=Digi-Key; ComponentLink4URL: https://datasheet.ciiva.com/19455/2170222-19455450.pdf?src-supplier=Jameco; ComponentLink4Description: https://datasheet.ciiva.com/19455/2170222-19455450.pdf?src-supplier=Jameco; ComponentLink5URL: https://datasheet.ciiva.com/20168/73-4445-20168553.pdf?src-supplier=Rapid+Electronics; ComponentLink5Description: https://datasheet.ciiva.com/20168/73-4445-20168553.pdf?src-supplier=Rapid+Electronics; ComponentLink6URL: https://datasheet.ciiva.com/6810/1682211-6810793.pdf?src-supplier=Newark; ComponentLink6Description: https://datasheet.ciiva.com/6810/1682211-6810793.pdf?src-supplier=Newark; ComponentLink7URL: https://datasheet.ciiva.com/7647/1682211-7647597.pdf?src-supplier=Element14; ComponentLink7Description: https://datasheet.ciiva.com/7647/1682211-7647597.pdf?src-supplier=Element14; Supplier 2: Mouser; Supplier Part Number 2: 782-A000062; Stock 2: 901; Pricing 2: 1=40.30000, 10=40.30000, 50=40.30000, 100=40.30000, 1000=40.30000, 10000=40.30000 (USD)
footprint DUE(NORMAL)
pins: 2 (io), 3 (io), 3V3 (io), 4 (io), 5 (io), 5V (io), 5V_A (io), 5V_B (io), 5V_ICSP (io), 6 (io), 7 (io), 8 (io), 9 (io), 10 (io), 11 (io), 12 (io), 13 (io), 22 (io), 23 (io), 24 (io), 25 (io), 26 (io), 27 (io), 28 (io), 29 (io), 30 (io), 31 (io), 32 (io), 33 (io), 34 (io), 35 (io), 36 (io), 37 (io), 38 (io), 39 (io), 40 (io), 41 (io), 42 (io), 43 (io), 44 (io), 45 (io), 46 (io), 47 (io), 48 (io), 49 (io), 50 (io), 51 (io), 52 (io), 53 (io), A0 (io), A1 (io), A2 (io), A3 (io), A4 (io), A5 (io), A6 (io), A7 (io), A8 (io), A9 (io), A10 (io), A11 (io), AREF (io), CANRX (io), CANTX (io), DAC0 (io), DAC1 (io), GND1 (io), GND_1 (io), GND_2 (io), GND_A (io), GND_B (io), GND_DEBUG (io), GND_ICSP (io), IOREF (io), MISO_ICSP (io), MOSI_ICSP (io), NC (io), RESET (io), RESET_DEBUG (io), RESET_ICSP (io), RX0 (io), RX1 (io), RX2 (io), RX3 (io), SCK_ICSP (io), SCL (io), SCL1 (io), SDA (io), SDA1 (io), SWCLK_DEBUG (io), SWDIO_DEBUG (io), TX0 (io), TX1 (io), TX2 (io), TX3 (io), VIN (io)

## GRM155R61E105KE11J
designator C?  Supplier Part Number 1: 81-GRM155R61E105KE1J
SMD Capacitor X5R(EIA) with Capacitance: 1.0uF Tol. 10%. Rated Voltage: 25Vdc; MP: GRM155R61E105KE11J; Package: None; Price: None; Value: *; Availability: Unavailable; Supplier 1: Mouser
footprint CAPC1005X60N
pins: 1, 2

## LM2590HVT-ADJ
designator U?  Supplier Part Number 1: LM2590HVT-ADJ/NOPB-ND
IC BUCK ADJ 1A; MP: LM2590HVT-ADJ; Package: None; Price: None; Value: *; Availability: Unavailable; Supplier 1: Digi-Key
footprint TO127P470X1016X1740-7P
pins: 1 VIN (in), 2 OUTPUT (out), 3 FLAG, 4 GND, 5 DELAY (in), 6 FEEDBACK (in), 7 *SD-SS (in)

## LM7805CT/NOPB
designator Q?  Supplier Part Number 1: 926-LM7805CT/NOPB
5V regulator; MP: LM7805CT/NOPB; Price: None; Value: *; Availability: Unavailable; Package: None; Supplier 1: Mouser
footprint TO254P1054X470X1955-3
pins: 1 IN (in), 2 GND (power), 3 OUT (out)

## LTC2336HMS-18
designator U?
1-Channel Single ADC SAR 250ksps 18-bit Serial Automotive 16-Pin MSOP Tube; Manufacturer: Analog Devices / Linear Technology; Manufacturer Part Number: LTC2336HMS-18#PBF; Interface: SPI; Number of Bits: 18; Sampling Rate: 250000S/s; Number of A/D Converters: 1; Min Supply Voltage: 4.75V; Max Supply Voltage: 5.25V; Nominal Supply Current: 5.5mA; Resolution: 18b; Supplier 1: Digi-Key; Supplier Part Number 1: 505-LTC2336HMS-18#PBF-ND; RoHS: Yes; Category: Analog to Digital Converters (ADCs); Stock 1: 51; Pricing 1: 1=51.57000, 10=48.11400, 25=46.09720, 100=44.84700 (USD); Case/Package: MSOP; Number of Pins: 16; Min Operating Temperature: -40°C; Max Operating Temperature: 125°C; Package Quantity: 37; Packaging: Rail/Tube; Number of Inputs: 1; REACH SVHC: No SVHC; RoHS Compliant: Yes; ComponentLink1URL: https://datasheet.ciiva.com/31394/1753492-31394758.pdf?src-supplier=Farnell; ComponentLink1Description: https://datasheet.ciiva.com/31394/1753492-31394758.pdf?src-supplier=Farnell; ComponentLink2URL: https://datasheet.ciiva.com/29654/43771-29654171.pdf?src-supplier=Digi-Key; ComponentLink2Description: https://datasheet.ciiva.com/29654/43771-29654171.pdf?src-supplier=Digi-Key; ComponentLink3URL: https://datasheet.ciiva.com/28464/1753492-28464969.pdf?src-supplier=Element14; ComponentLink3Description: https://datasheet.ciiva.com/28464/1753492-28464969.pdf?src-supplier=Element14
footprint TSSOP50P490X110-16N (TSSOP, 16-Leads, Body 4.04x3.00mm, Pitch 0.50mm, IPC Medium Density)
pins: 1 VDDLBYP (power), 2 VDD (power), 3 GND (power), 4 IN+ (in), 5 IN- (in), 6 GND (power), 7 REFBUF (out), 8 REFIN (in), 9 CNV (io), 10 CHAIN (io), 11 BUSY (io), 12 RDL/SDI (in), 13 SCK (io), 14 SDO (out), 15 OVDD (power), 16 GND (power)

## LTC6655
designator U?, comment LTC6655CHMS8-1.25#PBF
V-Ref Precision 1.25V 5mA Automotive 8-Pin MSOP (test to see if this pushes to cloud); Manufacturer: Analog Devices / Linear Technology; Tolerance: 0.05%; Number of Channels: 1; Temperature Coefficient: 5ppm/°C; Quiescent Current: 7mA; Reference Type: Series; Supplier 1: Mouser; Manufacturer Part Number: LTC6655CHMS8-1.25#PBF; RoHS: Yes; Category: Voltage Regulators - Linear; Stock 1: 586; Pricing 1: 1=9.85000, 10=8.73000, 50=8.32000, 100=7.22000, 250=6.90000, 1000=6.90000, 10000=6.90000 (USD); Mount: Surface Mount; Case/Package: MSOP; Number of Pins: 8; Min Operating Temperature: -40°C; Max Operating Temperature: 125°C; Package Quantity: 50; Packaging: Rail/Tube; Output Voltage: 1.25V; Nominal Supply Current: 5mA; Output Current: 5mA; Max Output Voltage: 1.25V; Series: -; Supply Current: 5mA; RoHS Compliant: Yes; ComponentLink1URL: https://datasheet.ciiva.com/2006/28576-2006051.pdf?src-supplier=Digi-Key; ComponentLink1Description: https://datasheet.ciiva.com/2006/28576-2006051.pdf?src-supplier=Digi-Key; ComponentLink2URL: https://datasheet.ciiva.com/14152/ltc6655-eng-ds-14152023.pdf?src-supplier=Distrelec; ComponentLink2Description: https://datasheet.ciiva.com/14152/ltc6655-eng-ds-14152023.pdf?src-supplier=Distrelec; Supplier Part Number 1: 584-C6655CHMS81.25PF
footprint TSOP65P490X110-8N (TSOP, 8-Leads, Body 3.00x3.00mm, Pitch 0.65mm, IPC Medium Density)
pins: 1 SHDN (in), 2 VIN (power), 3 GND (power), 4 GND (power), 5 GND (power), 6 VOUT_S, 7 VOUT_F, 8 GND (power)

## NE555PE4
designator U?  Supplier Part Number 1: 595-NE555P
IC OSC SINGLE TIMER 100KHZ 8-DIP; Mfr_Name: Texas Instruments; Copyright: Copyright (C) 2022 Ultra Librarian. All rights reserved.; Manufacturer_Part_Number: NE555PE4; Digi-Key_Part_Number_1: NE555PE4-ND; Digi-Key_Part_Number_2: 296-NE555P-ND; RefDes: RefDes; Type: DEV; Supplier 1: Mouser
footprint P8
pins: 1 GND (power), 2 TRIG (in), 3 OUT (out), 4 RESET (in), 5 CONT, 6 THRES (in), 7 DISCH, 8 VCC (power)

## PJ-102AH
designator J?  Supplier Part Number 1: CP-102AH-ND
2.0 x 6.5 mm, 5.0 A, Horizontal, Through Hole, Tapered Pins, Dc Power Jack Connector; Manufacturer: CUI; MF: CUI Devices; MP: PJ-102AH; Gender: Male; Shielding: Unshielded; Current Rating: 5A; Voltage Rating: 24V; Insulation Resistance: 50MR; Number of Conductors: 2; Digi-Key_Part_Number: CP-102AH-ND; CUI_purchase_URL: https://www.cuidevices.com/product/interconnect/connectors/dc-power-connectors/jacks/pj-102ah?utm_source=snapeda.com&utm_medium=referral&utm_campaign=snapedaBOM; SnapEDA_Link: https://www.snapeda.com/parts/PJ-102AH/CUI%20Devices/view-part/228264/?ref=snap; Package: None; Value: *; Digi-Key_Purchase_URL: https://www.digikey.com/product-detail/en/cui-devices/PJ-102AH/CP-102AH-ND/408448?utm_source=snapeda&utm_medium=aggregator&utm_campaign=symbol; Supplier 1: Digi-Key; Manufacturer Part Number: PJ-102AH; RoHS: Yes; Category: Connectors; Mount: Through Hole; Color: Black; Contact Material: Copper; Contact Plating: Nickel; Housing Color: Black; Housing Material: Thermoplastic; Min Operating Temperature: -25°C; Max Operating Temperature: 85°C; Package Quantity: 280; Termination: Through Hole; Connector Type: Jack; Contact Gender: Male; Series: -; Orientation: Horizontal; Packaging: Bulk; Diameter: 2.1mm; Lead Free: Lead Free; Flammability Rating: UL94 V-0; RoHS Compliant: Yes; ComponentLink1URL: http://www.mouser.com/ds/2/670/PJ-102AH-524179.pdf?src-supplier=Mouser; ComponentLink1Description: http://www.mouser.com/ds/2/670/PJ-102AH-524179.pdf?src-supplier=Mouser; ComponentLink2URL: https://www.cui.com/product/resource/digikeypdf/pj-102ah.pdf?src-supplier=Digi-Key; ComponentLink2Description: https://www.cui.com/product/resource/digikeypdf/pj-102ah.pdf?src-supplier=Digi-Key; ComponentLink3URL: http://www.cui.com/Product/Resource/FuturePDF/PJ-102AH.pdf?src-supplier=Future+Electronics; ComponentLink3Description: http://www.cui.com/Product/Resource/FuturePDF/PJ-102AH.pdf?src-supplier=Future+Electronics
footprint CUI_PJ-102AH
pins: 1, 2, 3

## RES SMD 5.1K OHM 1% 0.4W 0805
designator R?
Res Thick Film 0805 5.1kOhm 1% 2/5W ±100ppm/K Molded Paper T/R; Manufacturer: Vishay Dale; Manufacturer Part Number: RCS08055K10FKEA; Resistance: 5.1kR; Max Power Dissipation: 400mW; Temperature Coefficient: 100ppm/°C; Supplier 1: Digi-Key; Supplier Part Number 1: 541-RCS08055K10FKEACT-ND; RoHS: Yes; Category: Chip SMD Resistors; Stock 1: 3307; Pricing 1: 1=0.26000, 10=0.21800, 100=0.08510, 1000=0.03560, 2500=0.03264 (USD); Case/Package: 0805; Min Operating Temperature: -55°C; Max Operating Temperature: 155°C; Package Quantity: 5000; Packaging: Tape and Reel; Resistor Type: Thick Film; Number of Terminations: 2; Tolerance: 1%; Features: Automotive AEC-Q200; Length: 0.079inch; Width: 0.049inch; Height: 0.02inch; ComponentLink1URL: http://www.vishay.com/docs/20065/rcse3.pdf?src-supplier=Digi-Key; ComponentLink1Description: http://www.vishay.com/docs/20065/rcse3.pdf?src-supplier=Digi-Key; Supplier 2: Digi-Key; Supplier Part Number 2: 541-RCS08055K10FKEADKR-ND; Stock 2: 3307; Pricing 2: 1=0.26000, 10=0.21800, 100=0.08510, 1000=0.03560, 2500=0.03264 (USD); Supplier 3: Mouser; Supplier Part Number 3: 71-RCS08055K10FKEA; Stock 3: 1182; Pricing 3: 1=0.26000, 10=0.21800, 50=0.21800, 100=0.08600, 1000=0.03600, 10000=0.03400 (USD)
footprint 0805 Resistor
pins: 1, 2

## RMCF2512FT10K0
designator R?  Supplier Part Number 1: RMCF2512FT10K0
Package: None; Price: None; Value: *; MP: RMCF2512FT10K0; Availability: Unavailable; Supplier 1: Arrow Electronics
footprint RESC6332X70N
pins: 1, 2

## TACL106K010RTA
designator C?
Cap Tant Solid 10uF 10V L CASE 10% (1.6 X 0.85 X 0.85mm) SMD 1608-10 7.5 Ohm 125°C Plastic T/R; Manufacturer: Kyocera AVX; MP: TACL106K010RTA; Dielectric Material: Tantalum; ESR (Equivalent Series Resistance): 7.5R; Leakage Current: 1uA; Dissipation Factor: 20%; Polarity: Polar; Package: None; Price: None; Value: *; Availability: Unavailable; Supplier 1: Digi-Key; Supplier Part Number 1: 478-TACL106K010RTACT-ND; Manufacturer Part Number: TACL106K010RTA; RoHS: Yes; Category: Tantalum Capacitors; Stock 1: 3500; Pricing 1: 1=2.54000, 10=2.05600, 50=1.79400, 100=1.56980, 500=1.19600, 1000=1.04650 (USD); Case/Package: Conformal Coated; Number of Pins: 2; Case Code (Imperial): 0603; Case Code (Metric): 1608; Min Operating Temperature: -55°C; Max Operating Temperature: 125°C; Capacitance: 10uF; Tolerance: 10%; Package Quantity: 3500; Voltage Rating: 10V; Packaging: Tape and Reel; Voltage Rating (DC): 10V; Termination: SMD/SMT; Voltage: 10V; Series: TAC; Construction: Flat; Length: 1.6mm; Width: 0.85mm; Height: 0.85mm; Lead Pitch: 0.55mm; Depth: 0.85mm; Radiation Hardening: No; RoHS Compliant: Yes; ComponentLink1URL: https://datasheet.ciiva.com/11219/tac-11219455.pdf?src-supplier=Avnet; ComponentLink1Description: https://datasheet.ciiva.com/11219/tac-11219455.pdf?src-supplier=Avnet; ComponentLink2URL: https://datasheet.ciiva.com/12907/tac-12907781.pdf?src-supplier=Mouser; ComponentLink2Description: https://datasheet.ciiva.com/12907/tac-12907781.pdf?src-supplier=Mouser; ComponentLink3URL: https://datasheet.ciiva.com/14598/70001310-14598278.pdf?src-supplier=Allied+Electronics; ComponentLink3Description: https://datasheet.ciiva.com/14598/70001310-14598278.pdf?src-supplier=Allied+Electronics; Supplier 2: Digi-Key; Supplier Part Number 2: 478-TACL106K010RTADKR-ND; Stock 2: 3500; Pricing 2: 1=2.54000, 10=2.05600, 50=1.79400, 100=1.56980, 500=1.19600, 1000=1.04650 (USD); Supplier 3: Digi-Key; Supplier Part Number 3: 478-TACL106K010RTATR-ND; Stock 3: 3500; Pricing 3: 3500=1.00913 (USD)
footprint CAPC1608X90
pins: +, -

## TI-7660-8
designator U?, comment tl7660CDGKR
CMOS Voltage Converter 8-VSSOP -40 to 85; Manufacturer: Texas Instruments; Max Supply Voltage: 10V; Min Supply Voltage: 1.5V; Number of Outputs: 1; Output Voltage: 20V; Output Current: 20uA; Nominal Supply Current: 120uA; Switching Frequency: 9kHz; Synchronous Rectifier: No; Logic Function: Inverting; Output Type: Adjustable; Quiescent Current: 110uA; Supplier 1: Digi-Key; Supplier Part Number 1: 296-TL7660CDGKRCT-ND; Supplier 2: Digi-Key; Supplier Part Number 2: 296-TL7660CDGKRDKR-ND; Supplier 3: Digi-Key; Supplier Part Number 3: 296-TL7660CDGKRTR-ND; Supplier 4: Arrow Electronics; Supplier Part Number 4: TL7660CDGKR; Supplier 5: Mouser; Supplier Part Number 5: 595-TL7660CDGKR; Manufacturer Part Number: TL7660CDGKR; RoHS: Yes; Category: Voltage Regulators - Switching; Stock 1: 3670; Pricing 1: 1=1.79000, 10=1.61200, 25=1.52120, 100=1.29600, 250=1.21688, 500=1.06476, 1000=1.00450 (USD); Case/Package: VSSOP; Number of Pins: 8; Weight: 0.000935oz; Contact Plating: Gold; Min Operating Temperature: -40°C; Max Operating Temperature: 125°C; Packaging: Tape and Reel; Package Quantity: 1; Number of Channels: 1; Series: -; Max Input Voltage: 10V; Supply Current: 120uA; Width: 3mm; Radiation Hardening: No; Lead Free: Lead Free; RoHS Compliant: Yes; ComponentLink1URL: https://datasheet.ciiva.com/15114/getdatasheetpartid-256695-15114098.pdf?src-supplier=Verical; ComponentLink1Description: https://datasheet.ciiva.com/15114/getdatasheetpartid-256695-15114098.pdf?src-supplier=Verical; ComponentLink2URL: https://datasheet.ciiva.com/2025/tl7660-2025569.pdf?src-supplier=Digi-Key; ComponentLink2Description: https://datasheet.ciiva.com/2025/tl7660-2025569.pdf?src-supplier=Digi-Key; ComponentLink3URL: https://datasheet.ciiva.com/2025/tl7660-2025570.pdf?src-supplier=Digi-Key; ComponentLink3Description: https://datasheet.ciiva.com/2025/tl7660-2025570.pdf?src-supplier=Digi-Key; ComponentLink4URL: https://datasheet.ciiva.com/2025/tl7660-2025571.pdf?src-supplier=Digi-Key; ComponentLink4Description: https://datasheet.ciiva.com/2025/tl7660-2025571.pdf?src-supplier=Digi-Key; Stock 2: 3670; Pricing 2: 1=1.79000, 10=1.61200, 25=1.52120, 100=1.29600, 250=1.21688, 500=1.06476, 1000=1.00450 (USD); Stock 3: 2500; Pricing 3: 2500=1.00450 (USD); Stock 4: 2412; Pricing 4: 1=1.72270, 10=1.54570, 25=1.47060, 100=1.22500, 250=1.13670, 500=0.99630, 1000=0.81540 (USD); Stock 5: 1398; Pricing 5: 1=1.79000, 10=1.62000, 25=1.53000, 50=1.53000, 100=1.30000, 250=1.22000, 500=1.07000, 1000=0.88300, 10000=0.88300 (USD)
footprint DGK0008A_L (TSOP, 8-Leads, Body 3.1x3.1mm, Pitch 0.65mm, IPC High Density)
footprint DGK0008A_M (TSOP, 8-Leads, Body 3.1x3.1mm, Pitch 0.65mm, IPC Low Density)
footprint DGK0008A_N (TSOP, 8-Leads, Body 3.1x3.1mm, Pitch 0.65mm, IPC Medium Density)
pins: 1 NC, 2 CAP+, 3 GND (power), 4 CAP-, 5 VOUT, 6 LV, 7 OSC, 8 VCC (power)

## TPS54062DRBT
designator U?
IC REG BUCK ADJUSTABLE 50MA 8SON; Mfr_Name: Texas Instruments; Copyright: Copyright (C) 2022 Ultra Librarian. All rights reserved.; Manufacturer_Part_Number: TPS54062DRBT; Digi-Key_Part_Number_1: 296-30078-1-ND; Digi-Key_Part_Number_2: 296-30078-2-ND; Digi-Key_Part_Number_3: 296-30078-6-ND; Digi-Key_Part_Number_4: 2156-TPS54062DRBT-ND; RefDes: RefDes; Type: DEV; Supplier 1: Arrow Electronics; Supplier Part Number 1: TPS54062DRBT
footprint IC_DRV8601DRBT
pins: 1 BOOT (out), 2 VIN (in), 3 EN (in), 4 RT/CLK, 5 VSENSE (in), 6 COMP (out), 7 GND (power), 8 PH, 9 EPAD

## XT60_YELLOW
designator J?
Power connector; 65A; PIN: 2; Colour: yellow; MP: XT60 YELLOW; MF: Pololu; Package: None; SnapEDA_Link: https://www.snapeda.com/parts/XT60%20YELLOW/Pololu/view-part/423230/?ref=snap; Availability: Unavailable; Price: None; Value: *
footprint AMASS_XT60PB-M
pins: 1, 2